# Altium footprint library 4GMODULE.PcbLib: 36 footprints (part 2 of 3)
Each footprint in its own frame and in the unit in brackets; x right, y up, seen from the top. Pads: shape width x height; smd on the part's side, far side on the other; paste and mask are expansions set on the pad; w line width, h text height; cw(c..) or ccw(c..) is an arc to the next point about the centre after c.
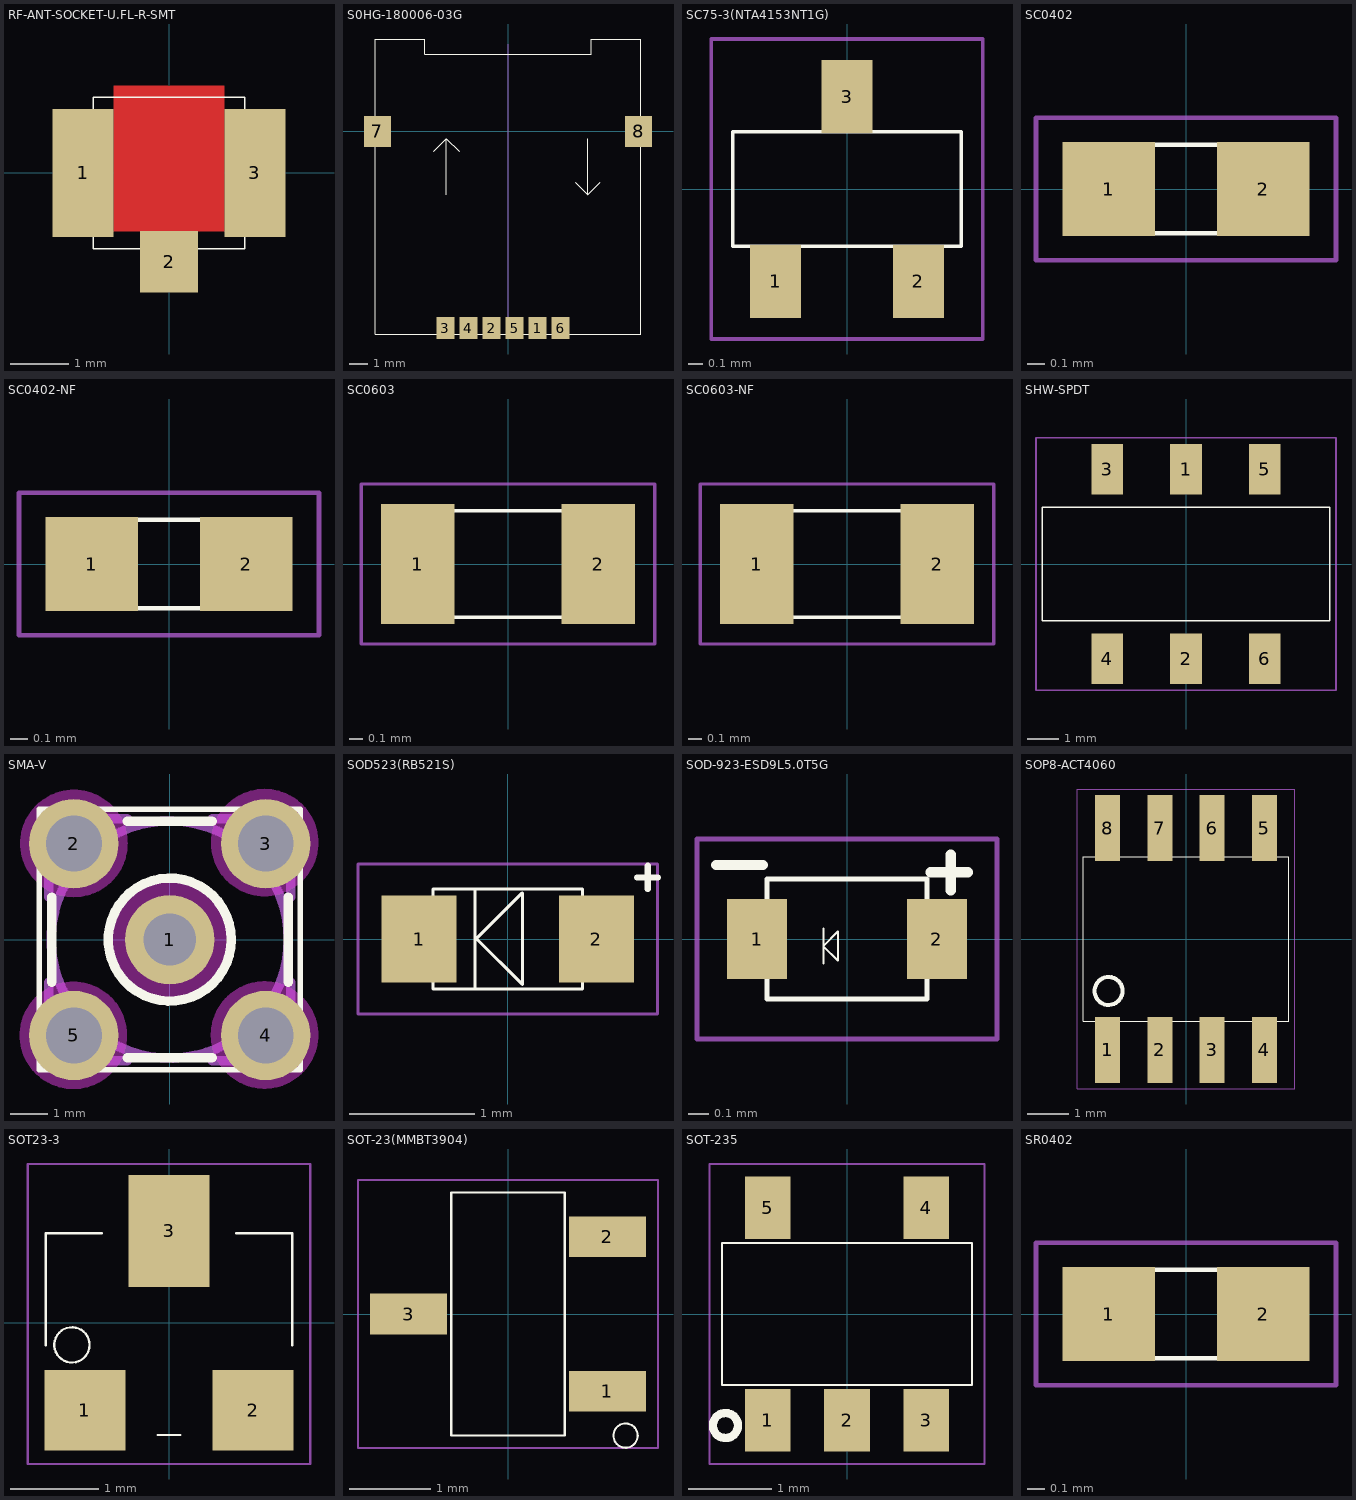
[diagram p1: the footprints below, top view; thin cyan lines are the x and y axes]

## RF-ANT-SOCKET-U.FL-R-SMT [mm]
pads (3):
  rect 1.05x2.2 smd: 1(-1.475,0) 3(1.475,0)
  rect 1x1.05 smd: 2(0,-1.525)
Top Layer:
  pour cut-out: -0.95,1.5 0.95,1.5 0.95,-1.003 -0.95,-1.003
Top Overlay:
  lines w0.025: -1.3,-1.3 1.3,-1.3 1.3,1.3 -1.3,1.3 -1.3,-1.3

## S0HG-180006-03G [mm]
pads (8):
  rect 1x1.2 smd: 1(1.63,-10.85) 2(-0.91,-10.85) 3(-3.45,-10.85) 4(-2.18,-10.85) 5(0.36,-10.85) 6(2.9,-10.85)
  rect 1.5x1.7 smd: 7(-7.2,0) 8(7.2,0)
Top Overlay:
  lines w0.001: -7.33,5.1 -7.33,-11.2 7.33,-11.2 7.33,5.1 4.6,5.1 4.6,4.25 -4.6,4.25 -4.6,5.1 -7.3,5.1 ; -4.1,-1.1 -3.4,-0.4 ; -3.4,-3.5 -3.4,-0.4 ; -2.7,-1.1 -3.4,-0.4 ; 3.7,-2.8 4.4,-3.5 ; 4.4,-0.4 4.4,-3.5 ; 5.1,-2.8 4.4,-3.5
Mechanical 1:
  lines w0.001: 0,-11.1 0,4.8

## SC75-3(NTA4153NT1G) [mil]
pads (3):
  rect 14.02x20 smd: 1(-19.68,-25.49) 2(19.68,-25.49) 3(0,25.49)
Top Overlay:
  lines w1: -31.5,-15.75 31.5,-15.75 31.5,15.75 -31.5,15.75 -31.5,-15.75
Mechanical 1:
  lines w1: -37.4,-41.34 37.4,-41.34 37.4,41.34 -37.4,41.34 -37.4,-41.34

## SC0402 [mm]
pads (2):
  rect 0.52x0.53 smd: 1(-0.435,0) 2(0.435,0)
Top Overlay:
  lines w0.025: -0.5,-0.25 0.5,-0.25 0.5,0.25 -0.5,0.25 -0.5,-0.25
Mechanical 1:
  lines w0.025: -0.845,-0.4 0.845,-0.4 0.845,0.4 -0.845,0.4 -0.845,-0.4

## SC0402-NF [mm]
pads (2):
  rect 0.52x0.53 smd: 1(-0.435,0) 2(0.435,0)
Top Overlay:
  lines w0.025: -0.5,-0.25 0.5,-0.25 0.5,0.25 -0.5,0.25 -0.5,-0.25
Mechanical 1:
  lines w0.025: -0.845,-0.4 0.845,-0.4 0.845,0.4 -0.845,0.4 -0.845,-0.4

## SC0603 [mm]
pads (2):
  rect 0.551x0.899 smd: 1(-0.675,0) 2(0.675,0)
Top Overlay:
  lines w0.025: -0.8,-0.4 0.8,-0.4 0.8,0.4 -0.8,0.4 -0.8,-0.4
Mechanical 1:
  lines w0.025: -1.1,-0.6 1.1,-0.6 1.1,0.6 -1.1,0.6 -1.1,-0.6

## SC0603-NF [mm]
pads (2):
  rect 0.551x0.899 smd: 1(-0.675,0) 2(0.675,0)
Top Overlay:
  lines w0.025: -0.8,-0.4 0.8,-0.4 0.8,0.4 -0.8,0.4 -0.8,-0.4
Mechanical 1:
  lines w0.025: -1.1,-0.6 1.1,-0.6 1.1,0.6 -1.1,0.6 -1.1,-0.6

## SHW-SPDT [mm]
pads (6):
  rect 1x1.6 smd: 1(0,3) 2(0,-3) 3(-2.5,3) 4(-2.5,-3) 5(2.5,3) 6(2.5,-3)
Top Overlay:
  lines w0.05: -4.55,-1.8 -4.55,1.8 4.55,1.8 4.55,-1.8 -4.55,-1.8
Mechanical 1:
  lines w0.05: -4.75,-4 -4.75,4 4.75,4 4.75,-4 -4.75,-4

## SMA-V [mm]
pads (5):
  round 2.4 hole 1.4: 1(0,0)
  round 2.4 hole 1.5: 2(-2.575,2.575) 3(2.575,2.575) 4(2.575,-2.575) 5(-2.575,-2.575)
Top Overlay:
  circle w0.254: c0,0 r1.651
  lines w0.15: -3.5,-3.5 -3.5,3.5 3.5,3.5 3.5,-3.5 -3.5,-3.5
  lines w0.254: -3.175,-1.143 -3.175,1.143 ; -1.143,-3.175 1.143,-3.175 ; -1.143,3.175 1.143,3.175 ; 3.175,-1.143 3.175,1.143
Keep-Out Layer:
  drawing of 5 lines, arcs and shapes, not listed
Mechanical 1:
  circle w0.254: c0,0 r3.185
  lines w0.254: -3.25,-1.143 -3.25,-3.25 -1.143,-3.25 ; -3.25,1.143 -3.25,3.25 -1.143,3.25 ; 1.143,-3.25 3.25,-3.25 3.25,-1.143 ; 1.143,3.25 3.25,3.25 3.25,1.143

## SOD523(RB521S) [mm]
pads (2):
  rect 0.6x0.7 smd: 1(-0.71,0) 2(0.71,0)
Top Overlay:
  lines w0.001: -0.6,-0.4 0.6,-0.4 0.6,0.4 -0.6,0.4 -0.6,-0.4
  lines w0.025: -0.263,-0.4 -0.263,0.4 ; -0.251,0.002 0.117,0.37 0.117,-0.364 -0.252,0.005 ; 1.038,0.492 1.204,0.492 ; 1.122,0.4 1.122,0.587 ; -0.8,-0.15 -0.6,-0.15 -0.6,0.15 -0.8,0.15 -0.8,-0.15 ; -0.6,-0.4 0.6,-0.4 0.6,0.4 -0.6,0.4 -0.6,-0.4 ; 0.6,-0.15 0.8,-0.15 0.8,0.15 0.6,0.15 0.6,-0.15
  lines w0.05: 1.038,0.492 1.204,0.492 ; 1.122,0.4 1.122,0.587
Mechanical 1:
  lines w0.025: -1.2,-0.6 1.2,-0.6 1.2,0.6 -1.2,0.6 -1.2,-0.6

## SOD-923-ESD9L5.0T5G [mm]
pads (2):
  rect 0.3x0.4 smd: 1(-0.45,0) 2(0.45,0)
Top Overlay:
  lines w0.01: -0.118,-0.035 -0.045,-0.108 -0.045,0.039 -0.117,-0.033 ; -0.116,-0.122 -0.116,0.054
  lines w0.025: -0.4,-0.3 -0.4,0.3 0.4,0.3 0.4,-0.3 -0.4,-0.3
  lines w0.052: -0.653,0.37 -0.421,0.37 ; 0.419,0.334 0.604,0.334 ; 0.518,0.243 0.518,0.421
Mechanical 1:
  lines w0.025: -0.75,-0.5 -0.75,0.5 0.75,0.5 0.75,-0.5 -0.75,-0.5

## SOP8-ACT4060 [mm]
pads (8):
  rect 0.61x1.6 smd: 1(-1.905,-2.7) 2(-0.635,-2.7) 3(0.635,-2.7) 4(1.905,-2.7) 5(1.905,2.7) 6(0.635,2.7) 7(-0.635,2.7) 8(-1.905,2.7)
Top Overlay:
  circle w0.025: c-1.88,-1.277 r0.34
  circle w0.1: c-1.884,-1.264 r0.34
  lines w0.025: -2.5,-2 -2.5,2 2.5,2 2.5,-2 -2.5,-2
Mechanical 1:
  lines w0.025: -2.65,-3.65 2.65,-3.65 2.65,3.65 -2.65,3.65 -2.65,-3.65

## SOT23-3 [mil]
pads (3):
  rect 36x36 smd: 1(-37.5,-39) 2(37.5,-39)
  rect 36x50 smd: 3(0,41)
Top Overlay:
  circle w1: c-43.31,-9.84 r7.87
  lines w1: -55,-10 -55,40 -30,40 ; -5,-50 5,-50 ; 30,40 55,40 55,-10
Mechanical 1:
  lines w1: -62.99,-62.99 -62.99,70.87 62.99,70.87 62.99,-62.99 -62.99,-62.99

## SOT-23(MMBT3904) [mm]
pads (3):
  rect 0.95x0.5 smd: 1(1.225,-0.95) 2(1.225,0.95) 3(-1.225,0)
Top Overlay:
  circle w0.025: c1.45,-1.5 r0.15
  lines w0.025: -0.7,-1.5 -0.7,1.5 0.7,1.5 0.7,-1.5 -0.7,-1.5
Mechanical 1:
  lines w0.025: -1.85,-1.65 1.85,-1.65 1.85,1.65 -1.85,1.65 -1.85,-1.65

## SOT-235 [mm]
pads (5):
  rect 0.55x0.75 smd: 1(-0.95,-1.275) 2(0,-1.275) 3(0.95,-1.275) 4(0.95,1.275) 5(-0.95,1.275)
Top Overlay:
  circle w0.025: c-1.459,-1.338 r0.15
  circle w0.1: c-1.459,-1.338 r0.15
  lines w0.025: -1.5,-0.85 -1.5,0.85 1.5,0.85 1.5,-0.85 -1.5,-0.85
Mechanical 1:
  lines w0.025: -1.65,-1.8 -1.65,1.8 1.65,1.8 1.65,-1.8 -1.65,-1.8

## SR0402 [mm]
pads (2):
  rect 0.52x0.53 smd: 1(-0.435,0) 2(0.435,0)
Top Overlay:
  lines w0.025: -0.5,-0.25 -0.5,0.25 0.5,0.25 0.5,-0.25 -0.5,-0.25
Mechanical 1:
  lines w0.025: -0.845,-0.4 -0.845,0.4 0.845,0.4 0.845,-0.4 -0.845,-0.4